# EAGLE library part LTC3480 (library Inductive_Transmitter)
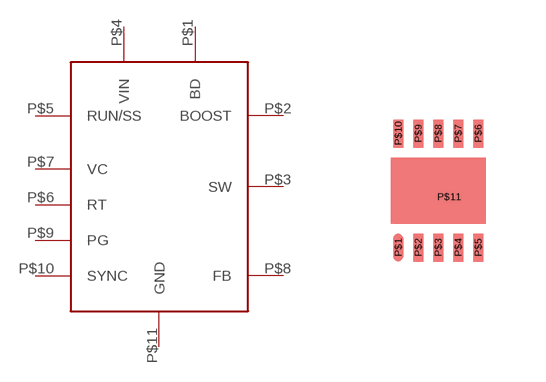
[diagram p0: symbol with the pads of LTC3480; footprint LTC3480]

Designator prefix -

## LTC3480  [LTC3480]
P$1  BD
P$2  BOOST
P$3  SW
P$4  VIN
P$5  RUN/SS
P$6  RT
P$7  VC
P$8  FB
P$9  PG
P$10  SYNC
P$11  GND

## Footprint LTC3480 (pad centres in mm)
smd 0.25 x 0.7: P$1 0,0; P$2 0.5,0; P$3 1,0; P$4 1.5,0; P$5 2,0; P$6 2,2.85; P$7 1.5,2.85; P$8 1,2.85; P$9 0.5,2.85; P$10 0,2.85
smd 0.7 x 0.25: P$11 1.27,1.27